# Altium integrated library TCA6408ARGTR.IntLib: 1 symbol
Pins are listed as number, name and electrical type; pins without a type are passive.

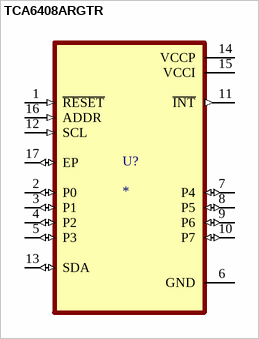
[diagram p0: symbol TCA6408ARGTR]

## TCA6408ARGTR
designator U?
Low-Voltage 8-Bit I2C and SMBus I/O Expander 16-VQFN -40 to 85; MP: TCA6408ARGTR; MF: Texas Instruments; Check_prices: https://www.snapeda.com/parts/TCA6408ARGTR/Texas%20Instruments/view-part/598493/?ref=eda; Package: VQFN-16 Texas Instruments; SnapEDA_Link: https://www.snapeda.com/parts/TCA6408ARGTR/Texas%20Instruments/view-part/598493/?ref=snap; Value: *; Purchase-URL: https://pricing.snapeda.com/search/part/TCA6408ARGTR/?ref=eda; Availability: Good; Price: None
footprint QFN50P300X300X100-17N
pins: 1 ~{RESET} (in), 2 P0 (io), 3 P1 (io), 4 P2 (io), 5 P3 (io), 6 GND (power), 7 P4 (io), 8 P5 (io), 9 P6 (io), 10 P7 (io), 11 ~{INT} (out), 12 SCL (in), 13 SDA (io), 14 VCCP (power), 15 VCCI (power), 16 ADDR (in), 17 EP (io)